# Altium integrated library CONBNC002.IntLib: 1 symbol
Pins are listed as number, name and electrical type; pins without a type are passive.

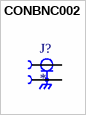
[diagram p0: symbol CONBNC002]

## CONBNC002
designator J?
BNC Jack 50 Ohm PCB Through Hole; MF: Linx Technologies Inc.; MP: CONBNC002; SnapEDA_Link: https://www.snapeda.com/parts/CONBNC002/Linx/view-part/?ref=snap; Package: None; Value: *; Check_prices: https://www.snapeda.com/parts/CONBNC002/Linx/view-part/?ref=eda
footprint LINX_CONBNC002
pins: 1, 2, S1 2, S2 2